# Altium footprint library Others.PcbLib: 7 footprints
Each footprint in its own frame and in the unit in brackets; x right, y up, seen from the top. Pads: shape width x height; smd on the part's side, far side on the other; paste and mask are expansions set on the pad; w line width, h text height; cw(c..) or ccw(c..) is an arc to the next point about the centre after c.
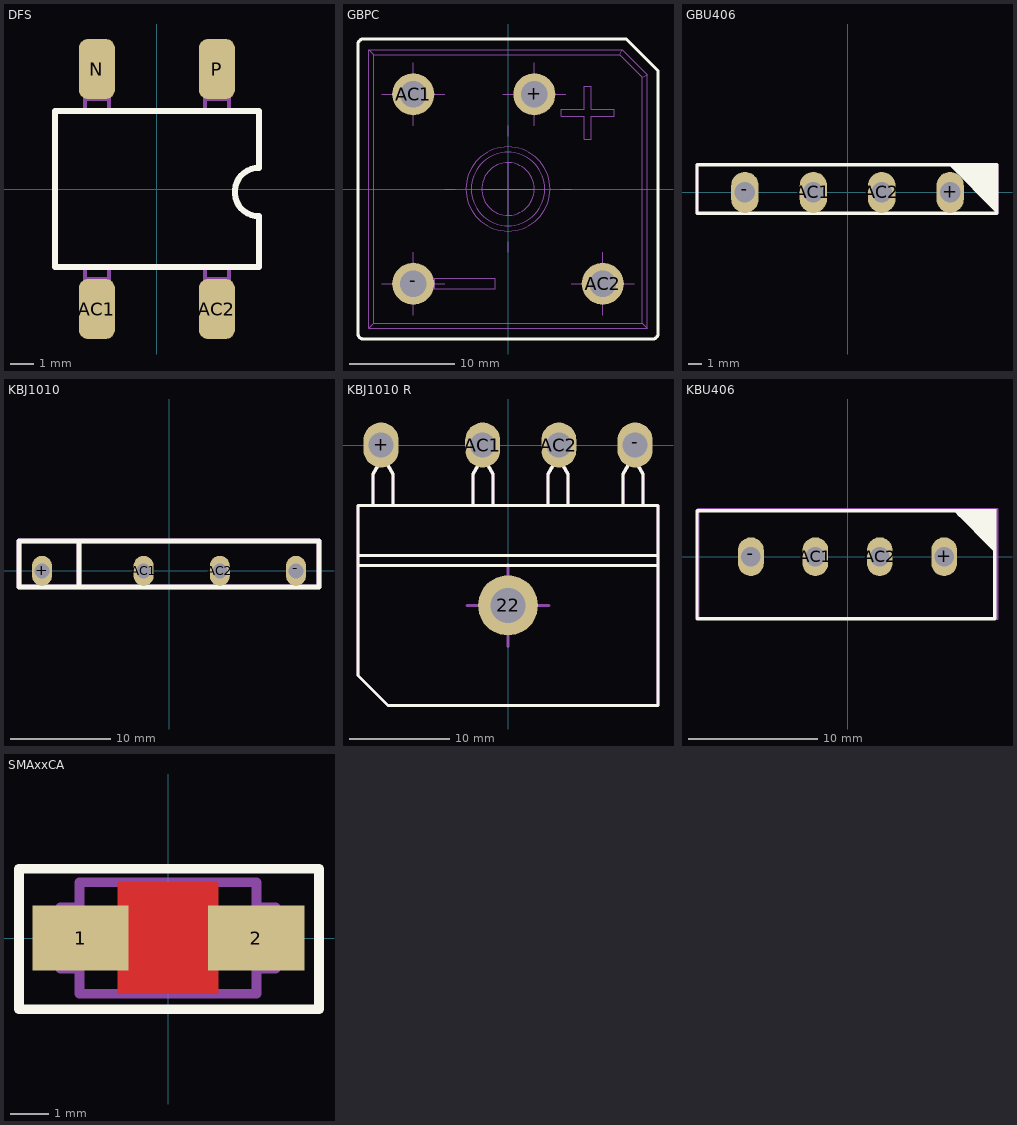
[diagram p0: the footprints below, top view; thin cyan lines are the x and y axes]

## DFS [mil]
pads (4):
  rrect50% 60x100 smd: AC1(-100,-200) AC2(100,-200) N(-100,200) P(100,200)
Top Overlay:
  lines w10: 170,-45.31 cw(c170,-5) 170,35.31 ; 170,-45 170,-130 -170,-130 -170,130 170,130 170,35
Mechanical 3:
  text ".Designator / .Comment" at -175,-55 h78.74
Mechanical 13:
  lines w7.01: -120,-150 -80,-150 ; -120,-130 -120,-190 -80,-190 -80,-130 ; -120,130 -120,190 -80,190 -80,130 ; -120,150 -80,150 ; 80,-150 120,-150 ; 80,-130 80,-190 120,-190 120,-130 ; 80,130 80,190 120,190 120,130 ; 80,150 120,150 ; 170,-45.31 cw(c170,-5) 170,35.31 ; 170,-45 170,-130 -170,-130 -170,130 170,130 170,35
  text "+" at 60,40 h62.5
  text "~~" at 78.74,-157.48 h62.5
  text "-" at -140,40 h62.5
  text "~~" at -157.48,-157.48 h62.5
3D body "User Library-DFS.STEP": height 102.76, standoff 0.6, extent -161.42,-206.69 161.42,198.82

## GBPC [mm]
pads (4):
  round 4 hole 2.5: +(2.5,9) -(-9,-9) AC1(-9,9) AC2(9,-9)
Top Overlay:
  lines w0.3: -14.25,-13.75 ccw(c-13.75,-13.75) -13.75,-14.25 13.75,-14.25 ccw(c13.75,-13.75) 14.25,-13.75 14.25,11.25 11.25,14.25 -13.75,14.25 ccw(c-13.75,13.75) -14.25,13.75 -14.25,-13.75
Mechanical 13:
  circle w0.1: c2.5,9 r0.5
  circle w0.1: c-9,9 r0.5
  circle w0.1: c-9,-9 r0.5
  circle w0.1: c9,-9 r0.5
  circle w0.1: c0,0 r2.5
  circle w0.1: c0,0 r3.5
  lines w0.1: -12,-9 -11.5,-9 -9,-9 ; -12,9 -11.5,9 -9,9 ; -9,-12 -9,-11.5 -9,-9 ; -9,-6 -9,-6.5 -9,-9 ; -9,6 -9,6.5 -9,9 ; -9,12 -9,11.5 -9,9 ; -6,-9 -6.5,-9 -9,-9 ; -6,0 -5,0 ; -6,9 -6.5,9 -9,9 ; -2.5,0 0,0 ; -0.5,9 0,9 2.5,9 ; 0,-6 0,-5 ; 0,-2.5 0,0 ; 0,2.5 0,0 ; 0,5 0,6 ; 2.5,0 0,0 ; 2.5,6 2.5,6.5 2.5,9 ; 2.5,12 2.5,11.5 2.5,9 ; 5,0 6,0 ; 5.5,9 5,9 2.5,9 ; 6,-9 6.5,-9 9,-9 ; 9,-12 9,-11.5 9,-9 ; 9,-6 9,-6.5 9,-9 ; 12,-9 11.5,-9 9,-9 ; -13.25,-13.25 13.25,-13.25 ; -13.25,-13.25 -13.25,13.25 ; -13.25,-13.25 -12.75,-12.75 ; -13.25,13.25 10.836,13.25 ; -13.25,13.25 -12.75,12.75 ; -12.75,-12.75 -12.75,12.75 ; -12.75,-12.75 12.75,-12.75 ; -12.75,12.75 10.629,12.75 ; 10.629,12.75 10.836,13.25 ; 10.629,12.75 12.75,10.629 ; 10.836,13.25 13.25,10.836 ; 12.75,-12.75 13.25,-13.25 ; 12.75,-12.75 12.75,10.629 ; 12.75,10.629 13.25,10.836 ; 13.25,-13.25 13.25,10.836 ; -14.25,-13.75 ccw(c-13.75,-13.75) -13.75,-14.25 13.75,-14.25 ccw(c13.75,-13.75) 14.25,-13.75 14.25,11.25 11.25,14.25 -13.75,14.25 ccw(c-13.75,13.75) -14.25,13.75 -14.25,-13.75 ; -6.944,-9.464 -1.204,-9.464 -1.204,-8.487 -6.944,-8.487 -6.944,-9.464 ; 0,-4 cw(c0,0) 0,4 cw(c0,0) 0,-4 ; 5.08,6.921 7.265,6.921 7.265,4.736 7.93,4.736 7.93,6.921 10.114,6.921 10.114,7.585 7.93,7.585 7.93,9.77 7.265,9.77 7.265,7.585 5.08,7.585 5.08,6.921
3D body "User Library-GBPC2508W greatz.step": height 10.05, standoff -9, extent -14.25,-14.25 14.25,14.25

## GBU406 [mm]
pads (4):
  oval 2x3 hole 1.5: +(7.5,0) -(-7.5,0) AC1(-2.5,0) AC2(2.5,0)
Top Overlay:
  region: 10.795,1.905 10.795,-1.397 7.493,1.905
  lines w0.254: -11,-1.524 10.922,-1.524 10.922,2.032 6.858,2.032 -11,2.032 -11,-1.524
Mechanical 3:
  text ".Designator / .Comment" at -2.159,1.778 h1.02
Mechanical 13:
  region: 10.922,1.905 10.922,-1.397 7.62,1.905
  lines w0.2: -11,-1.524 10.922,-1.524 10.922,2.032 -11,2.032 -11,-1.524
3D body "User Library-Silicon Bridge Rectifiers GBU406.step": height 21.25, standoff -15.25, extent -11,-1.524 11,2.026

## KBJ1010 [mm]
pads (4):
  oval 2x3 hole 1.5: +(-12.7,0) -(12.7,0) AC1(-2.54,0) AC2(5.08,0)
Top Overlay:
  lines w0.5: -9,-1.312 -9,3 ; -15,-1.625 15,-1.625 15,3 -15,3 -15,-1.625
Mechanical 3:
  text ".Designator / .Comment" at -2.159,1.778 h1.02
Mechanical 13:
  lines w0.5: -9,-1.625 -9,3 ; -15,-1.625 -15,3 15,3 15,-1.625 -15,-1.625
3D body "User Library-Silicon Bridge Rectifiers KBJ1010.step": height 23.85, standoff -13.35, extent -15,-1.8 15,3

## KBJ1010 R [mm]
pads (5):
  round 6 hole 3.5: 22(-0.009,-16.043)
  oval 3.5x4.5 hole 2.5: +(-12.7,0) -(12.7,0) AC1(-2.54,0) AC2(5.08,0)
Top Overlay:
  lines w0.3: -13.509,-6.043 -13.509,-2.909 -13.009,-2.043 -13.009,-0.343 ; -11.509,-6.043 -11.509,-2.909 -12.009,-2.043 -12.009,-0.343 ; -3.509,-6.043 -3.509,-2.909 -3.009,-2.043 -3.009,-0.343 ; -1.509,-6.043 -1.509,-2.909 -2.009,-2.043 -2.009,-0.343 ; 3.991,-6.043 3.991,-2.909 4.491,-2.043 4.491,-0.343 ; 5.991,-6.043 5.991,-2.909 5.491,-2.043 5.491,-0.343 ; 11.491,-6.043 11.491,-2.909 11.991,-2.043 11.991,-0.343 ; 13.491,-6.043 13.491,-2.909 12.991,-2.043 12.991,-0.343 ; -15.009,-12.043 -15.009,-23.043 -12.009,-26.043 14.991,-26.043 14.991,-12.043 ; -15.009,-12.043 -15.009,-11.043 ; -15.009,-12.043 14.991,-12.043 ; -15.009,-11.043 14.991,-11.043 ; -15.009,-11.043 -15.009,-6.043 14.991,-6.043 14.991,-11.043 ; -13.009,-0.343 -12.009,-0.343 ; -13.009,-0.343 -13.009,0.007 ; -13.009,0.007 -12.609,0.007 ; -13.009,0.007 -13.009,0.707 -12.609,0.707 ; -12.609,0.007 -12.409,0.007 ; -12.609,0.007 -12.609,0.707 ; -12.609,0.707 -12.409,0.707 ; -12.409,0.007 -12.009,0.007 ; -12.409,0.007 -12.409,0.707 ; -12.409,0.707 -12.009,0.707 -12.009,0.007 ; -12.009,-0.343 -12.009,0.007 ; -3.009,-0.343 -2.009,-0.343 ; -3.009,-0.343 -3.009,0.007 ; -3.009,0.007 -2.609,0.007 ; -3.009,0.007 -3.009,0.707 -2.609,0.707 ; -2.609,0.007 -2.409,0.007 ; -2.609,0.007 -2.609,0.707 ; -2.609,0.707 -2.409,0.707 ; -2.409,0.007 -2.009,0.007 ; -2.409,0.007 -2.409,0.707 ; -2.409,0.707 -2.009,0.707 -2.009,0.007 ; -2.009,-0.343 -2.009,0.007 ; 4.491,-0.343 5.491,-0.343 ; 4.491,-0.343 4.491,0.007 ; 4.491,0.007 4.891,0.007 ; 4.491,0.007 4.491,0.707 4.891,0.707 ; 4.891,0.007 5.091,0.007 ; 4.891,0.007 4.891,0.707 ; 4.891,0.707 5.091,0.707 ; 5.091,0.007 5.491,0.007 ; 5.091,0.007 5.091,0.707 ; 5.091,0.707 5.491,0.707 5.491,0.007 ; 5.491,-0.343 5.491,0.007 ; 11.991,-0.343 12.991,-0.343 ; 11.991,-0.343 11.991,0.007 ; 11.991,0.007 12.391,0.007 ; 11.991,0.007 11.991,0.707 12.391,0.707 ; 12.391,0.007 12.591,0.007 ; 12.391,0.007 12.391,0.707 ; 12.391,0.707 12.591,0.707 ; 12.591,0.007 12.991,0.007 ; 12.591,0.007 12.591,0.707 ; 12.591,0.707 12.991,0.707 12.991,0.007 ; 12.991,-0.343 12.991,0.007 ; 14.991,-12.043 14.991,-11.043
Mechanical 3:
  text ".Designator / .Comment" at -2.159,1.778 h1.02
Mechanical 13:
  circle w0.3: c-0.009,-16.043 r1.6
  lines w0.3: -13.509,-6.043 -13.509,-2.909 -13.009,-2.043 -13.009,-0.343 ; -11.509,-6.043 -11.509,-2.909 -12.009,-2.043 -12.009,-0.343 ; -4.109,-16.043 -2.509,-16.043 -0.009,-16.043 ; -3.509,-6.043 -3.509,-2.909 -3.009,-2.043 -3.009,-0.343 ; -1.509,-6.043 -1.509,-2.909 -2.009,-2.043 -2.009,-0.343 ; -0.009,-20.143 -0.009,-18.543 -0.009,-16.043 ; -0.009,-11.943 -0.009,-13.543 -0.009,-16.043 ; 3.991,-6.043 3.991,-2.909 4.491,-2.043 4.491,-0.343 ; 4.091,-16.043 2.491,-16.043 -0.009,-16.043 ; 5.991,-6.043 5.991,-2.909 5.491,-2.043 5.491,-0.343 ; 11.491,-6.043 11.491,-2.909 11.991,-2.043 11.991,-0.343 ; 13.491,-6.043 13.491,-2.909 12.991,-2.043 12.991,-0.343 ; -15.009,-12.043 14.991,-12.043 ; -15.009,-12.043 -15.009,-11.043 ; -15.009,-12.043 -15.009,-23.043 -12.009,-26.043 14.991,-26.043 14.991,-12.043 ; -15.009,-11.043 -15.009,-6.043 14.991,-6.043 14.991,-11.043 ; -15.009,-11.043 14.991,-11.043 ; -13.009,-0.343 -13.009,0.007 ; -13.009,-0.343 -12.009,-0.343 ; -13.009,0.007 -13.009,0.707 -12.609,0.707 ; -13.009,0.007 -12.609,0.007 ; -12.609,0.007 -12.609,0.707 ; -12.609,0.007 -12.409,0.007 ; -12.609,0.707 -12.409,0.707 ; -12.409,0.007 -12.409,0.707 ; -12.409,0.007 -12.009,0.007 ; -12.409,0.707 -12.009,0.707 -12.009,0.007 ; -12.009,-0.343 -12.009,0.007 ; -3.009,-0.343 -3.009,0.007 ; -3.009,-0.343 -2.009,-0.343 ; -3.009,0.007 -3.009,0.707 -2.609,0.707 ; -3.009,0.007 -2.609,0.007 ; -2.609,0.007 -2.609,0.707 ; -2.609,0.007 -2.409,0.007 ; -2.609,0.707 -2.409,0.707 ; -2.409,0.007 -2.409,0.707 ; -2.409,0.007 -2.009,0.007 ; -2.409,0.707 -2.009,0.707 -2.009,0.007 ; -2.009,-0.343 -2.009,0.007 ; 4.491,-0.343 4.491,0.007 ; 4.491,-0.343 5.491,-0.343 ; 4.491,0.007 4.491,0.707 4.891,0.707 ; 4.491,0.007 4.891,0.007 ; 4.891,0.007 4.891,0.707 ; 4.891,0.007 5.091,0.007 ; 4.891,0.707 5.091,0.707 ; 5.091,0.007 5.091,0.707 ; 5.091,0.007 5.491,0.007 ; 5.091,0.707 5.491,0.707 5.491,0.007 ; 5.491,-0.343 5.491,0.007 ; 11.991,-0.343 11.991,0.007 ; 11.991,-0.343 12.991,-0.343 ; 11.991,0.007 11.991,0.707 12.391,0.707 ; 11.991,0.007 12.391,0.007 ; 12.391,0.007 12.391,0.707 ; 12.391,0.007 12.591,0.007 ; 12.391,0.707 12.591,0.707 ; 12.591,0.007 12.591,0.707 ; 12.591,0.007 12.991,0.007 ; 12.591,0.707 12.991,0.707 12.991,0.007 ; 12.991,-0.343 12.991,0.007 ; 14.991,-12.043 14.991,-11.043
3D body "User Library-bridge-15A-V.step": height 10, standoff -4.15, extent -15,-26.5 15,0.25

## KBU406 [mm]
pads (4):
  oval 2x3 hole 1.5: +(7.5,0) -(-7.5,0) AC1(-2.5,0) AC2(2.5,0)
Top Overlay:
  region: 11.557,3.683 11.557,0.381 8.255,3.683
  lines w0.254: 8.763,3.175 8.382,3.556 ; 11.43,-1.524 11.43,3.556 8.382,3.556 ; 8.382,3.556 -11.684,3.556 -11.684,-4.826 11.43,-4.826 11.43,0.508 8.382,3.556
Mechanical 3:
  text ".Designator / .Comment" at -2.159,1.778 h1.02
Mechanical 13:
  region: 11.557,3.683 11.557,0.381 8.255,3.683
  lines w0.2: -11.6,-4.826 11.6,-4.826 11.6,3.674 -11.6,3.674 -11.6,-4.826
3D body "User Library-KBU.step": height 19.3, standoff -4.5, extent -11.6,-4.826 11.6,3.674

## SMAxxCA [mm]
pads (2):
  rect 2.5x1.7 smd: 1(-2.285,0) 2(2.285,0)
Top Layer:
  pour cut-out: -1.321,1.448 -1.321,-1.448 -1.319,-1.45 1.295,-1.45 1.295,1.425 1.27,1.45
Top Overlay:
  lines w0.254: -3.885,-1.85 3.915,-1.85 3.915,1.8 -3.885,1.8 -3.885,-1.85
Mechanical 3:
  lines w0.254: -2.81,-0.35 -2.81,0 ; -2.31,-0.8 -2.81,-0.8 -2.81,0 ; -2.31,0 -2.31,1.45 ; -2.31,0.8 -2.81,0.8 -2.81,0 ; -0.01,1.45 -2.31,1.45 ; 2.29,-0.8 2.79,-0.8 2.79,0 2.79,0.8 2.29,0.8 ; -2.31,1.45 -2.31,-1.45 2.29,-1.45 2.29,1.45 -2.31,1.45